# EAGLE library part ATSAMR3* (library IC_Wireless-RF)
SAM R34/R35 Low Power LoRa® Sub-GHz SiP Datasheet <https://ww1.microchip.com/downloads/en/DeviceDoc/SAM-R34-R35-Low-Power-LoRa-Sub-GHz-SiP-Data-Sheet-DS70005356C.pdf> Product Page <https://www.microchip.com/en-us/products/wireless-connectivity/lora-technology/sam-r34-r35>
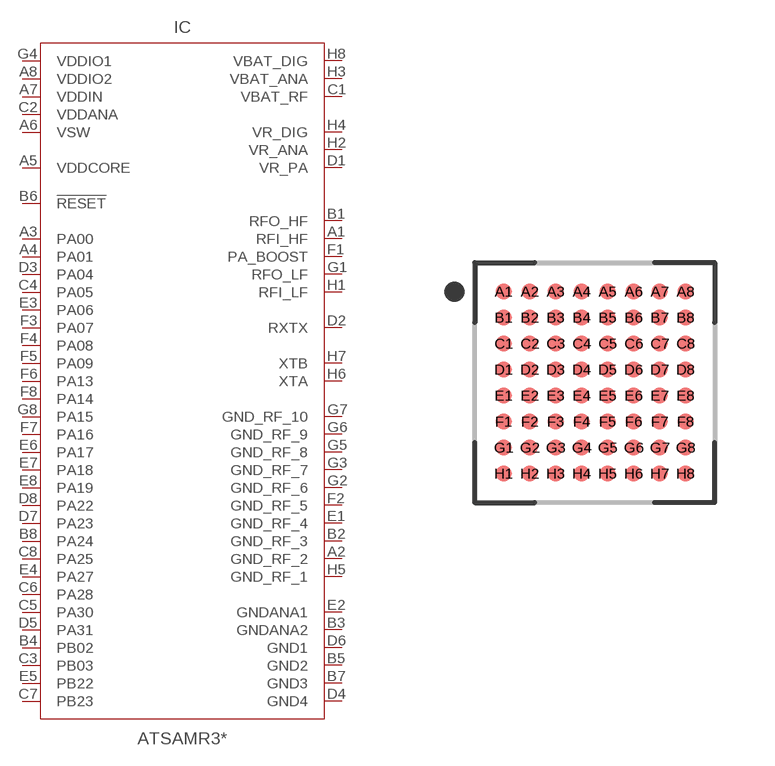
[diagram p1: symbol with the pads of BGA64C65P8X8_600X600X120; footprint BGA64C65P8X8_600X600X120]

Designator prefix IC

## ATSAMR34J16BT-I/7JX (CATEGORY: IC_Wireless-RF; DESCRIPTION: LoRa SiP Transceiver USB 64K Flash 8K SRAM, 4KB LP SRAM, T&R; MANUFACTURER: Microchip Technology; MPN: ATSAMR34J16BT-I/7JX; OPERATING_TEMP: -40°C to 85°C; PART_STATUS: Active; SERIES: ATSAMR34; SUB-CATEGORY: Transceiver; TYPE: LoRa™; VALUE: ATSAMR34), ATSAMR34J17BT-I/7JX (CATEGORY: IC_Wireless-RF; DESCRIPTION: LoRa SiP Transceiver USB 128K Flash 16K SRAM, 8KB LP SRAM, T&R; MANUFACTURER: Microchip Technology; MPN: ATSAMR34J17BT-I/7JX; OPERATING_TEMP: -40°C to 85°C; PART_STATUS: Active; SERIES: ATSAMR34; SUB-CATEGORY: Transceiver; TYPE: LoRa™; VALUE: ATSAMR34), ATSAMR34J18BT-I/7JX (CATEGORY: IC_Wireless-RF; DESCRIPTION: LoRa SiP Transceiver USB 256K Flash 32K SRAM, 8KB LP SRAM, T&R; MANUFACTURER: Microchip Technology; MPN: ATSAMR34J18BT-I/7JX; OPERATING_TEMP: -40°C to 85°C; PART_STATUS: Active; SERIES: ATSAMR34; SUB-CATEGORY: Transceiver; TYPE: LoRa™; VALUE: ATSAMR34), ATSAMR35J16BT-I/7JX (CATEGORY: IC_Wireless-RF; DESCRIPTION: LoRa SiP Transceiver 64K Flash 8K SRAM, 4KB LP SRAM, T&R; MANUFACTURER: Microchip Technology; MPN: ATSAMR35J16BT-I/7JX; OPERATING_TEMP: -40°C to 85°C; PART_STATUS: Active; SERIES: ATSAMR35; SUB-CATEGORY: Transceiver; TYPE: LoRa™; VALUE: ATSAMR34), ATSAMR35J17BT-I/7JX (CATEGORY: IC_Wireless-RF; DESCRIPTION: LoRa SiP Transceiver 128K Flash 16K SRAM, 8KB LP SRAM, T&R; MANUFACTURER: Microchip Technology; MPN: ATSAMR35J17BT-I/7JX; OPERATING_TEMP: -40°C to 85°C; PART_STATUS: Active; SERIES: ATSAMR35; SUB-CATEGORY: Transceiver; TYPE: LoRa™; VALUE: ATSAMR34), ATSAMR35J18BT-I/7JX (CATEGORY: IC_Wireless-RF; DESCRIPTION: LoRa SiP Transceiver 256K Flash 32K SRAM, 8KB LP SRAM, T&R; MANUFACTURER: Microchip Technology; MPN: ATSAMR35J18BT-I/7JX; OPERATING_TEMP: -40°C to 85°C; PART_STATUS: Active; SERIES: ATSAMR35; SUB-CATEGORY: Transceiver; TYPE: LoRa™; VALUE: ATSAMR34)  [BGA64C65P8X8_600X600X120]
A1  RFI_HF  in
A2  GND_RF_2  pas
A3  PA00
A4  PA01
A5  VDDCORE  pwr
A6  VSW  pas
A7  VDDIN  pwr
A8  VDDIO2  pwr
B1  RFO_HF  out
B2  GND_RF_3  pas
B3  GNDANA2  pas
B4  PB02
B5  GND2  pas
B6  !RESET!  in
B7  GND3  pas
B8  PA24
C1  VBAT_RF  pas
C2  VDDANA  pwr
C3  PB03
C4  PA05
C5  PA30
C6  PA28
C7  PB23
C8  PA25
D1  VR_PA  pas
D2  RXTX  out
D3  PA04
D4  GND4  pas
D5  PA31
D6  GND1  pas
D7  PA23
D8  PA22
E1  GND_RF_4  pas
E2  GNDANA1  pas
E3  PA06
E4  PA27
E5  PB22
E6  PA17
E7  PA18
E8  PA19
F1  PA_BOOST  out
F2  GND_RF_5  pas
F3  PA07
F4  PA08
F5  PA09
F6  PA13
F7  PA16
F8  PA14
G1  RFO_LF  out
G2  GND_RF_6  pas
G3  GND_RF_7  pas
G4  VDDIO1  pwr
G5  GND_RF_8  pas
G6  GND_RF_9  pas
G7  GND_RF_10  pas
G8  PA15
H1  RFI_LF  in
H2  VR_ANA  pas
H3  VBAT_ANA  pas
H4  VR_DIG  pas
H5  GND_RF_1  pas
H6  XTA  out
H7  XTB  in
H8  VBAT_DIG  pas

## Footprint BGA64C65P8X8_600X600X120 (pad centres in mm)
64-BGA, collapsing, 0.65 mm pitch, 6.00 X 6.00 X 1.20 mm body 64-pin collapsing BGA package with 0.65 mm col pitch and 0.65 mm row pitch with body size 6.00 X 6.00 X 1.20 mm
smd 0.4 x 0.4: A1 -2.275,2.275; A2 -1.625,2.275; A3 -0.975,2.275; A4 -0.325,2.275; A5 0.325,2.275; A6 0.975,2.275; A7 1.625,2.275; A8 2.275,2.275; B1 -2.275,1.625; B2 -1.625,1.625; B3 -0.975,1.625; B4 -0.325,1.625; B5 0.325,1.625; B6 0.975,1.625; B7 1.625,1.625; B8 2.275,1.625; C1 -2.275,0.975; C2 -1.625,0.975; C3 -0.975,0.975; C4 -0.325,0.975; C5 0.325,0.975; C6 0.975,0.975; C7 1.625,0.975; C8 2.275,0.975; D1 -2.275,0.325; D2 -1.625,0.325; D3 -0.975,0.325; D4 -0.325,0.325; D5 0.325,0.325; D6 0.975,0.325; D7 1.625,0.325; D8 2.275,0.325; E1 -2.275,-0.325; E2 -1.625,-0.325; E3 -0.975,-0.325; E4 -0.325,-0.325; E5 0.325,-0.325; E6 0.975,-0.325; E7 1.625,-0.325; E8 2.275,-0.325; F1 -2.275,-0.975; F2 -1.625,-0.975; F3 -0.975,-0.975; F4 -0.325,-0.975; F5 0.325,-0.975; F6 0.975,-0.975; F7 1.625,-0.975; F8 2.275,-0.975; G1 -2.275,-1.625; G2 -1.625,-1.625; G3 -0.975,-1.625; G4 -0.325,-1.625; G5 0.325,-1.625; G6 0.975,-1.625; G7 1.625,-1.625; G8 2.275,-1.625; H1 -2.275,-2.275; H2 -1.625,-2.275; H3 -0.975,-2.275; H4 -0.325,-2.275; H5 0.325,-2.275; H6 0.975,-2.275; H7 1.625,-2.275; H8 2.275,-2.275